# Altium schematic symbol library Phoenix.SchLib: 43 symbols
Pins are listed as number, name and electrical type; pins without a type are passive.

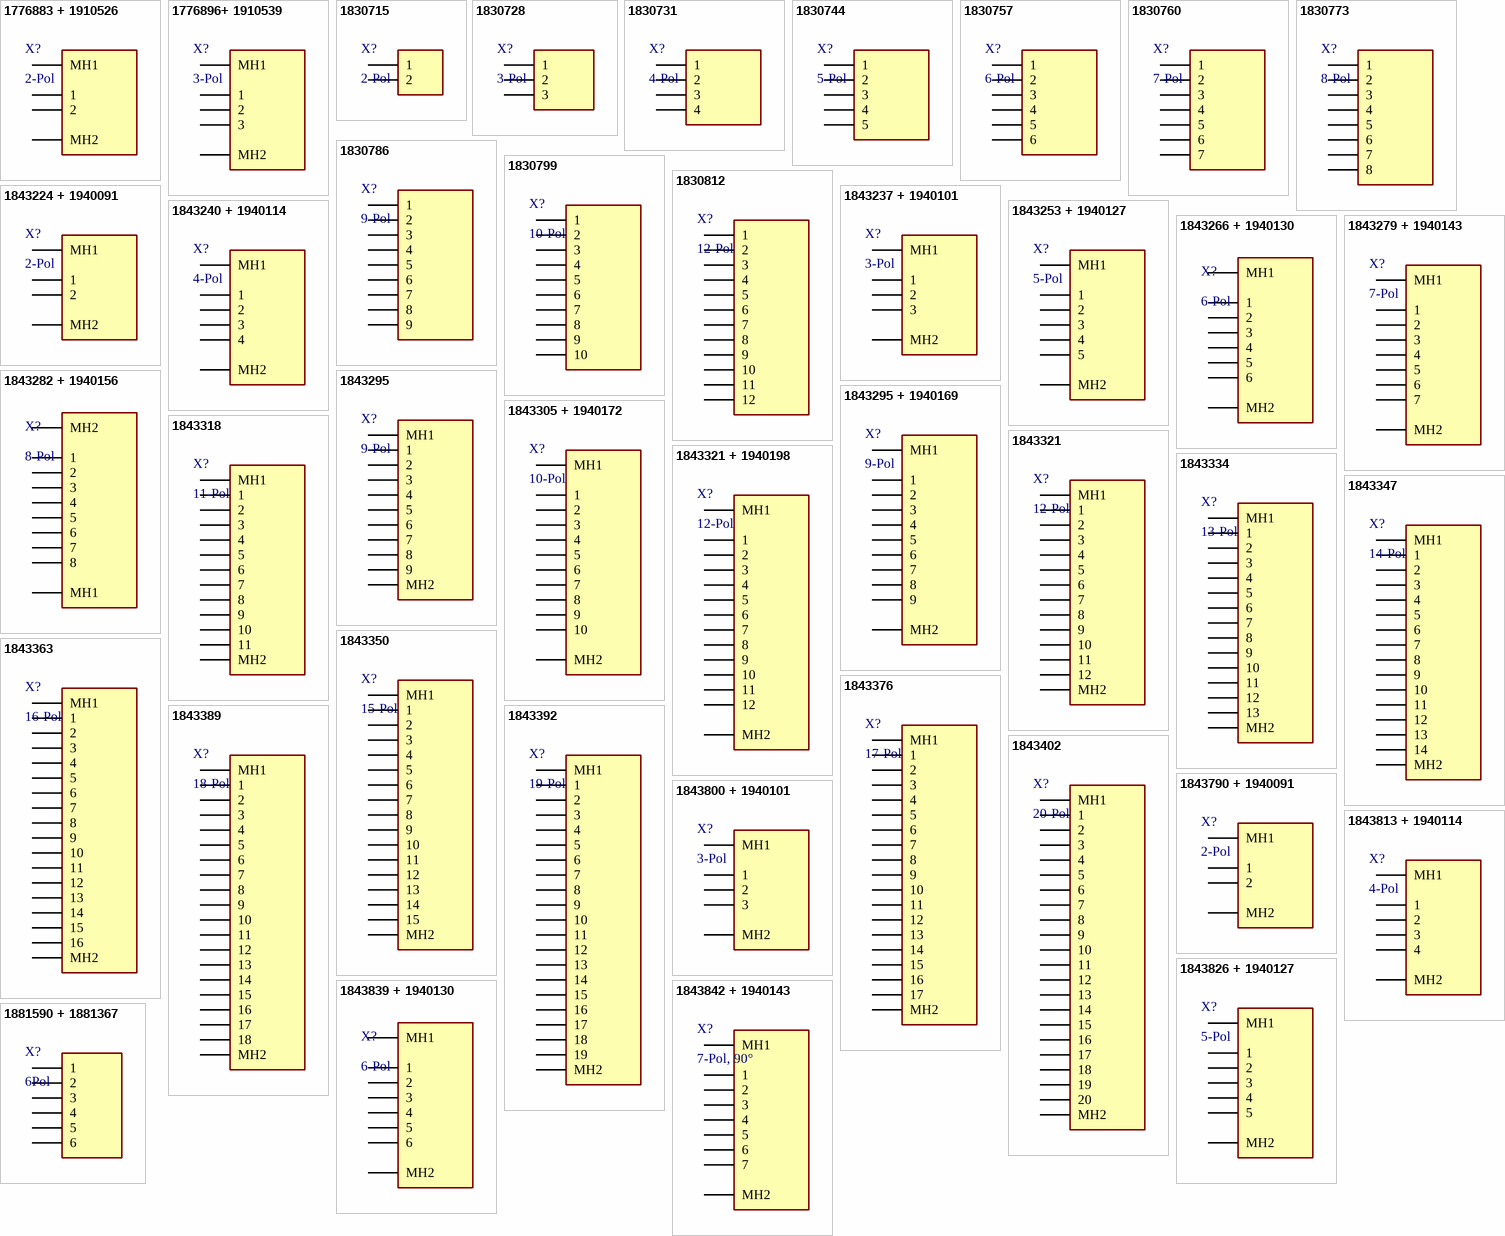
[diagram p0: symbols 1776883 + 1910526 to 1881590 + 1881367]

## 1776883 + 1910526
designator X?, comment 2-Pol
MSTBV 2,5/ 2-GF; Manufacturer: Phoenix Contact; Ordering Number: 1776883 + 1910526; Datasheet Link: https://pxc-crisp-production-platform-cr-s3downloadbucket-1rf23da6xdlmt.s3.eu-west-1.amazonaws.com/7581998?response-content-disposition=attachment%3B%20filename%20%3D%221776883_06_de_00.pdf%22&X-Amz-Algorithm=AWS4-HMAC-SHA256&X-Amz-Date=20230502T132623Z&X-Amz-SignedHeaders=host&X-Amz-Expires=10800&X-Amz-Credential=AKIAWWXX4BDRFPQUJUER%2F20230502%2Feu-west-1%2Fs3%2Faws4_request&X-Amz-Signature=93fda9201eaa23829656cda063376b60d5c1e41fd797b3d325ff711a1963ead9; Height: 15.9; Mouser Price/Stock: https://www.mouser.co.uk/ProductDetail/Phoenix-Contact/1843224?qs=W3wJikR1%252BS7TdfQo8aVAlQ%3D%3D; Arrow Part Number: 1843224; Arrow Price/Stock: https://www.arrow.com/en/products/1843224/phoenix-contact?region=nac
footprint 1776883 + 1910526
pins: 1, 2, MH1, MH2

## 1776896+ 1910539
designator X?, comment 3-Pol
MSTBV 2,5/ 3-GF; Manufacturer: Phoenix Contact; Ordering Number: 1776896+ 1910539; Datasheet Link: https://pxc-crisp-production-platform-cr-s3downloadbucket-1rf23da6xdlmt.s3.eu-west-1.amazonaws.com/7581998?response-content-disposition=attachment%3B%20filename%20%3D%221776883_06_de_00.pdf%22&X-Amz-Algorithm=AWS4-HMAC-SHA256&X-Amz-Date=20230502T132623Z&X-Amz-SignedHeaders=host&X-Amz-Expires=10800&X-Amz-Credential=AKIAWWXX4BDRFPQUJUER%2F20230502%2Feu-west-1%2Fs3%2Faws4_request&X-Amz-Signature=93fda9201eaa23829656cda063376b60d5c1e41fd797b3d325ff711a1963ead9; Height: 15.9; Mouser Price/Stock: https://www.mouser.co.uk/ProductDetail/Phoenix-Contact/1843224?qs=W3wJikR1%252BS7TdfQo8aVAlQ%3D%3D; Arrow Part Number: 1843224; Arrow Price/Stock: https://www.arrow.com/en/products/1843224/phoenix-contact?region=nac
footprint 1776896+ 1910539
pins: 1, 2, 3, MH1, MH2

## 1830715
designator X?, comment 2-Pol
IMCV 1,5/ 2-G-3,5 P20 THR; Manufacturer: Phoenix Contact; Ordering Number: 1830715; Datasheet Link: https://pxc-crisp-production-platform-cr-s3downloadbucket-1rf23da6xdlmt.s3.eu-west-1.amazonaws.com/7581998?response-content-disposition=attachment%3B%20filename%20%3D%221776883_06_de_00.pdf%22&X-Amz-Algorithm=AWS4-HMAC-SHA256&X-Amz-Date=20230502T132623Z&X-Amz-SignedHeaders=host&X-Amz-Expires=10800&X-Amz-Credential=AKIAWWXX4BDRFPQUJUER%2F20230502%2Feu-west-1%2Fs3%2Faws4_request&X-Amz-Signature=93fda9201eaa23829656cda063376b60d5c1e41fd797b3d325ff711a1963ead9; Height: 15.9; Mouser Price/Stock: https://www.mouser.co.uk/ProductDetail/Phoenix-Contact/1843224?qs=W3wJikR1%252BS7TdfQo8aVAlQ%3D%3D; Arrow Part Number: 1830715; Arrow Price/Stock: https://www.arrow.com/en/products/1843224/phoenix-contact?region=nac
footprint 1830715 IMCV 1,5/2-G-3,5 P20 THR
pins: 1, 2

## 1830728
designator X?, comment 3-Pol
IMCV 1,5/ 3-G-3,5 P20 THR; Manufacturer: Phoenix Contact; Ordering Number: 1830728; Datasheet Link: https://pxc-crisp-production-platform-cr-s3downloadbucket-1rf23da6xdlmt.s3.eu-west-1.amazonaws.com/7581998?response-content-disposition=attachment%3B%20filename%20%3D%221776883_06_de_00.pdf%22&X-Amz-Algorithm=AWS4-HMAC-SHA256&X-Amz-Date=20230502T132623Z&X-Amz-SignedHeaders=host&X-Amz-Expires=10800&X-Amz-Credential=AKIAWWXX4BDRFPQUJUER%2F20230502%2Feu-west-1%2Fs3%2Faws4_request&X-Amz-Signature=93fda9201eaa23829656cda063376b60d5c1e41fd797b3d325ff711a1963ead9; Height: 15.9; Mouser Price/Stock: https://www.mouser.co.uk/ProductDetail/Phoenix-Contact/1843224?qs=W3wJikR1%252BS7TdfQo8aVAlQ%3D%3D; Arrow Part Number: 1830715; Arrow Price/Stock: https://www.arrow.com/en/products/1843224/phoenix-contact?region=nac
footprint 1830728 IMCV 1,5/3-G-3,5 P20 THR
pins: 1, 2, 3

## 1830731
designator X?, comment 4-Pol
IMCV 1,5/ 4-G-3,5 P20 THR; Manufacturer: Phoenix Contact; Ordering Number: 1830731; Datasheet Link: https://pxc-crisp-production-platform-cr-s3downloadbucket-1rf23da6xdlmt.s3.eu-west-1.amazonaws.com/7581998?response-content-disposition=attachment%3B%20filename%20%3D%221776883_06_de_00.pdf%22&X-Amz-Algorithm=AWS4-HMAC-SHA256&X-Amz-Date=20230502T132623Z&X-Amz-SignedHeaders=host&X-Amz-Expires=10800&X-Amz-Credential=AKIAWWXX4BDRFPQUJUER%2F20230502%2Feu-west-1%2Fs3%2Faws4_request&X-Amz-Signature=93fda9201eaa23829656cda063376b60d5c1e41fd797b3d325ff711a1963ead9; Height: 15.9; Mouser Price/Stock: https://www.mouser.co.uk/ProductDetail/Phoenix-Contact/1843224?qs=W3wJikR1%252BS7TdfQo8aVAlQ%3D%3D; Arrow Part Number: 1830715; Arrow Price/Stock: https://www.arrow.com/en/products/1843224/phoenix-contact?region=nac
footprint 1830731 IMCV 1,5/4-G-3,5 P20 THR
pins: 1, 2, 3, 4

## 1830744
designator X?, comment 5-Pol
IMCV 1,5/ 5-G-3,5 P20 THR; Manufacturer: Phoenix Contact; Ordering Number: 1830744; Datasheet Link: https://pxc-crisp-production-platform-cr-s3downloadbucket-1rf23da6xdlmt.s3.eu-west-1.amazonaws.com/7581998?response-content-disposition=attachment%3B%20filename%20%3D%221776883_06_de_00.pdf%22&X-Amz-Algorithm=AWS4-HMAC-SHA256&X-Amz-Date=20230502T132623Z&X-Amz-SignedHeaders=host&X-Amz-Expires=10800&X-Amz-Credential=AKIAWWXX4BDRFPQUJUER%2F20230502%2Feu-west-1%2Fs3%2Faws4_request&X-Amz-Signature=93fda9201eaa23829656cda063376b60d5c1e41fd797b3d325ff711a1963ead9; Height: 15.9; Mouser Price/Stock: https://www.mouser.co.uk/ProductDetail/Phoenix-Contact/1843224?qs=W3wJikR1%252BS7TdfQo8aVAlQ%3D%3D; Arrow Part Number: 1830715; Arrow Price/Stock: https://www.arrow.com/en/products/1843224/phoenix-contact?region=nac
footprint 1830744 IMCV 1,5/5-G-3,5 P20 THR
pins: 1, 2, 3, 4, 5

## 1830757
designator X?, comment 6-Pol
IMCV 1,5/ 6-G-3,5 P20 THR; Manufacturer: Phoenix Contact; Ordering Number: 1830757; Datasheet Link: https://pxc-crisp-production-platform-cr-s3downloadbucket-1rf23da6xdlmt.s3.eu-west-1.amazonaws.com/7581998?response-content-disposition=attachment%3B%20filename%20%3D%221776883_06_de_00.pdf%22&X-Amz-Algorithm=AWS4-HMAC-SHA256&X-Amz-Date=20230502T132623Z&X-Amz-SignedHeaders=host&X-Amz-Expires=10800&X-Amz-Credential=AKIAWWXX4BDRFPQUJUER%2F20230502%2Feu-west-1%2Fs3%2Faws4_request&X-Amz-Signature=93fda9201eaa23829656cda063376b60d5c1e41fd797b3d325ff711a1963ead9; Height: 15.9; Mouser Price/Stock: https://www.mouser.co.uk/ProductDetail/Phoenix-Contact/1843224?qs=W3wJikR1%252BS7TdfQo8aVAlQ%3D%3D; Arrow Part Number: 1830715; Arrow Price/Stock: https://www.arrow.com/en/products/1843224/phoenix-contact?region=nac
footprint 1830757 IMCV 1,5/6-G-3,5 P20 THR
pins: 1, 2, 3, 4, 5, 6

## 1830760
designator X?, comment 7-Pol
IMCV 1,5/ 7-G-3,5 P20 THR; Manufacturer: Phoenix Contact; Ordering Number: 1830760; Datasheet Link: https://pxc-crisp-production-platform-cr-s3downloadbucket-1rf23da6xdlmt.s3.eu-west-1.amazonaws.com/7581998?response-content-disposition=attachment%3B%20filename%20%3D%221776883_06_de_00.pdf%22&X-Amz-Algorithm=AWS4-HMAC-SHA256&X-Amz-Date=20230502T132623Z&X-Amz-SignedHeaders=host&X-Amz-Expires=10800&X-Amz-Credential=AKIAWWXX4BDRFPQUJUER%2F20230502%2Feu-west-1%2Fs3%2Faws4_request&X-Amz-Signature=93fda9201eaa23829656cda063376b60d5c1e41fd797b3d325ff711a1963ead9; Height: 15.9; Mouser Price/Stock: https://www.mouser.co.uk/ProductDetail/Phoenix-Contact/1843224?qs=W3wJikR1%252BS7TdfQo8aVAlQ%3D%3D; Arrow Part Number: 1830715; Arrow Price/Stock: https://www.arrow.com/en/products/1843224/phoenix-contact?region=nac
footprint 1830760 IMCV 1,5/7-G-3,5 P20 THR
pins: 1, 2, 3, 4, 5, 6, 7

## 1830773
designator X?, comment 8-Pol
IMCV 1,5/ 8-G-3,5 P20 THR; Manufacturer: Phoenix Contact; Ordering Number: 1830773; Datasheet Link: https://pxc-crisp-production-platform-cr-s3downloadbucket-1rf23da6xdlmt.s3.eu-west-1.amazonaws.com/7581998?response-content-disposition=attachment%3B%20filename%20%3D%221776883_06_de_00.pdf%22&X-Amz-Algorithm=AWS4-HMAC-SHA256&X-Amz-Date=20230502T132623Z&X-Amz-SignedHeaders=host&X-Amz-Expires=10800&X-Amz-Credential=AKIAWWXX4BDRFPQUJUER%2F20230502%2Feu-west-1%2Fs3%2Faws4_request&X-Amz-Signature=93fda9201eaa23829656cda063376b60d5c1e41fd797b3d325ff711a1963ead9; Height: 15.9; Mouser Price/Stock: https://www.mouser.co.uk/ProductDetail/Phoenix-Contact/1843224?qs=W3wJikR1%252BS7TdfQo8aVAlQ%3D%3D; Arrow Part Number: 1830715; Arrow Price/Stock: https://www.arrow.com/en/products/1843224/phoenix-contact?region=nac
footprint 1830773 IMCV 1,5/8-G-3,5 P20 THR
pins: 1, 2, 3, 4, 5, 6, 7, 8

## 1830786
designator X?, comment 9-Pol
IMCV 1,5/ 9-G-3,5 P20 THR; Manufacturer: Phoenix Contact; Ordering Number: 1830786; Datasheet Link: https://pxc-crisp-production-platform-cr-s3downloadbucket-1rf23da6xdlmt.s3.eu-west-1.amazonaws.com/7581998?response-content-disposition=attachment%3B%20filename%20%3D%221776883_06_de_00.pdf%22&X-Amz-Algorithm=AWS4-HMAC-SHA256&X-Amz-Date=20230502T132623Z&X-Amz-SignedHeaders=host&X-Amz-Expires=10800&X-Amz-Credential=AKIAWWXX4BDRFPQUJUER%2F20230502%2Feu-west-1%2Fs3%2Faws4_request&X-Amz-Signature=93fda9201eaa23829656cda063376b60d5c1e41fd797b3d325ff711a1963ead9; Height: 15.9; Mouser Price/Stock: https://www.mouser.co.uk/ProductDetail/Phoenix-Contact/1843224?qs=W3wJikR1%252BS7TdfQo8aVAlQ%3D%3D; Arrow Part Number: 1830715; Arrow Price/Stock: https://www.arrow.com/en/products/1843224/phoenix-contact?region=nac
footprint 1830786 IMCV 1,5/9-G-3,5 P20 THR
pins: 1, 2, 3, 4, 5, 6, 7, 8, 9

## 1830799
designator X?, comment 10-Pol
IMCV 1,5/ 10-G-3,5 P20 THR; Manufacturer: Phoenix Contact; Ordering Number: 1830799; Datasheet Link: https://pxc-crisp-production-platform-cr-s3downloadbucket-1rf23da6xdlmt.s3.eu-west-1.amazonaws.com/7581998?response-content-disposition=attachment%3B%20filename%20%3D%221776883_06_de_00.pdf%22&X-Amz-Algorithm=AWS4-HMAC-SHA256&X-Amz-Date=20230502T132623Z&X-Amz-SignedHeaders=host&X-Amz-Expires=10800&X-Amz-Credential=AKIAWWXX4BDRFPQUJUER%2F20230502%2Feu-west-1%2Fs3%2Faws4_request&X-Amz-Signature=93fda9201eaa23829656cda063376b60d5c1e41fd797b3d325ff711a1963ead9; Height: 15.9; Mouser Price/Stock: https://www.mouser.co.uk/ProductDetail/Phoenix-Contact/1843224?qs=W3wJikR1%252BS7TdfQo8aVAlQ%3D%3D; Arrow Part Number: 1830715; Arrow Price/Stock: https://www.arrow.com/en/products/1843224/phoenix-contact?region=nac
footprint 1830799 IMCV 1,5/10-G-3,5 P20 THR
pins: 1, 2, 3, 4, 5, 6, 7, 8, 9, 10

## 1830812
designator X?, comment 12-Pol
IMCV 1,5/ 12-G-3,5 P20 THR; Manufacturer: Phoenix Contact; Ordering Number: 1830812; Datasheet Link: https://pxc-crisp-production-platform-cr-s3downloadbucket-1rf23da6xdlmt.s3.eu-west-1.amazonaws.com/7581998?response-content-disposition=attachment%3B%20filename%20%3D%221776883_06_de_00.pdf%22&X-Amz-Algorithm=AWS4-HMAC-SHA256&X-Amz-Date=20230502T132623Z&X-Amz-SignedHeaders=host&X-Amz-Expires=10800&X-Amz-Credential=AKIAWWXX4BDRFPQUJUER%2F20230502%2Feu-west-1%2Fs3%2Faws4_request&X-Amz-Signature=93fda9201eaa23829656cda063376b60d5c1e41fd797b3d325ff711a1963ead9; Height: 14,45; Mouser Price/Stock: https://www.mouser.co.uk/ProductDetail/Phoenix-Contact/1843224?qs=W3wJikR1%252BS7TdfQo8aVAlQ%3D%3D; Arrow Part Number: 1830715; Arrow Price/Stock: https://www.arrow.com/en/products/1843224/phoenix-contact?region=nac
footprint 1830812 IMCV 1,5/12-G-3,5 P20 THR
pins: 1, 2, 3, 4, 5, 6, 7, 8, 9, 10, 11, 12

## 1843224 + 1940091
designator X?, comment 2-Pol
MCV 1,5/ 2-GF-3,5 + FK-MCP 1,5/ 2-STF-3,5; Manufacturer: Phoenix Contact; Ordering Number: 1843224 + 1940091; Datasheet Link: https://datasheet.datasheetarchive.com/originals/distributors/SFDatasheet-2/sf-00054479.pdf; Height: 9.2mm; Mouser Part Number: 651-1843224; Mouser Price/Stock: https://www.mouser.co.uk/ProductDetail/Phoenix-Contact/1843224?qs=W3wJikR1%252BS7TdfQo8aVAlQ%3D%3D; Arrow Part Number: 1843224; Arrow Price/Stock: https://www.arrow.com/en/products/1843224/phoenix-contact?region=nac
footprint 1843224 MCV 1,5/ 2-GF-3,5
pins: 1, 2, MH1, MH2

## 1843237 + 1940101
designator X?, comment 3-Pol
MCV 1,5/ 3-GF-3,5; Manufacturer: Phoenix Contact; Ordering Number: 1843237 + 1940101; Datasheet Link: https://datasheet.datasheetarchive.com/originals/distributors/SFDatasheet-2/sf-00054480.pdf; Height: 9.35mm; Mouser Part Number: 651-1843237; Mouser Price/Stock: https://www.mouser.co.uk/ProductDetail/Phoenix-Contact/1843237?qs=QWULklcAmSRz%2FPKCcOFzew%3D%3D; Arrow Part Number: 1843237; Arrow Price/Stock: https://www.arrow.com/en/products/1843237/phoenix-contact
footprint 1843237 MCV 1,5/ 3-GF-3,5
pins: 1, 2, 3, MH1, MH2

## 1843240 + 1940114
designator X?, comment 4-Pol
MCV 1,5/ 4-GF-3,5; Manufacturer: Phoenix Contact; Ordering_Number: 1843240 + 1940114; Datasheet Link: https://datasheet.datasheetarchive.com/originals/distributors/SFDatasheet-2/sf-00054481.pdf; Height: 9.2mm; Mouser Part Number: 651-1843240; Mouser Price/Stock: https://www.mouser.co.uk/ProductDetail/Phoenix-Contact/1843240?qs=W3wJikR1%252BS4UV948sQ%2FfDQ%3D%3D; Arrow Part Number: 1843240; Arrow Price/Stock: https://www.arrow.com/en/products/1843240/phoenix-contact?region=nac
footprint 1843240 MCV 1,5/ 4-GF-3,5
pins: 1, 2, 3, 4, MH1, MH2

## 1843253 + 1940127
designator X?, comment 5-Pol
MCV 1,5/ 5-GF-3,5 + FK-MCP 1,5/ 5-STF-3,5; Manufacturer: Phoenix Contact; Ordering Number: 1843253 + 1940127; Datasheet Link: https://datasheet.datasheetarchive.com/originals/distributors/Datasheets-DGA26/1813160.pdf; Height: 9.35mm; Mouser Part Number: 651-1843253; Mouser Price/Stock: https://www.mouser.co.uk/ProductDetail/Phoenix-Contact/1843253?qs=qDEY8L%2Fo3POXxLCZiJq8WA%3D%3D; Arrow Part Number: 1843253; Arrow Price/Stock: https://www.arrow.com/en/products/1843253/phoenix-contact
footprint 1843253 MCV 1,5/ 5-GF-3,5
pins: 1, 2, 3, 4, 5, MH1, MH2

## 1843266 + 1940130
designator X?, comment 6-Pol
MCV 1,5/ 6-GF-3,5 + FK-MCP 1,5/ 6-STF-3,5; Manufacturer: Phoenix Contact; Ordering Number: 1843266 + 1940130; Datasheet Link: https://www.phoenixcontact.com/online/portal/pi/pxc/product_detail_page/!ut/p/z1/5VdNT-MwEP0r3UNvuHa-3WMJXShQtqi0NLlETjLpms0XiWmBX792m1VVBOGAOKwSWantzDzPe56pNNjHK-znbMPXTPAiZ6lce74dUP3KvTg3tSkxLyi5vZldj25vZ4Y-0vES-9ivIYVIQOwyAeuiesHe6PpafRAsxJ6uZmUU_cHeDG
footprint 1843266 MCV 1,5/ 6-GF-3,5 + FK-MCP 1,5/ 6-STF-3,5
pins: 1, 2, 3, 4, 5, 6, MH1, MH2

## 1843279 + 1940143
designator X?, comment 7-Pol
MCV 1,5/ 7-GF-3,5; Manufacturer: Phoenix Contact; Ordering Number: 1843279 + 1940143; Datasheet Link: https://www.phoenixcontact.com/online/portal/pi/pxc/product_detail_page/!ut/p/z1/5VdLT-MwEP4r3UNvuHbe7rGEAgUKRaXQ5BI5yaRrNi8S0wK_fu02qwpUwgFxWCWyEj9mPvv7PBNpsI-X2M_Zmq-Y4EXOUjn2fDug-qV7fmZqU2KeU3J7Pbsa3d7ODH2k43vsY7-GFCIBscsErIrqFXujqyu1IFiIPV31yij6g70Z0j; Height: 9.35mm; Arrow Part Number: 1843279; Arrow Price/Stock: https://www.arrow.com/en/products/1843279/phoenix-contact
footprint 1843279 MCV 1,5/ 7-GF-3,5
pins: 1, 2, 3, 4, 5, 6, 7, MH1, MH2

## 1843282 + 1940156
designator X?, comment 8-Pol
MCV 1,5/ 8-GF-3,5; Manufacturer: Phoenix Contact; Ordering Number: 1843282 +; Datasheet Link: https://datasheet.datasheetarchive.com/originals/distributors/SFDatasheet-2/sf-00054485.pdf; Height: 9.35mm; Mouser Part Number: 651-1843282; Mouser Price/Stock: https://www.mouser.co.uk/ProductDetail/Phoenix-Contact/1843282?qs=QWULklcAmSTLfGtPADlbSQ%3D%3D; Arrow Part Number: 1843282; Arrow Price/Stock: https://www.arrow.com/en/products/1843282/phoenix-contact
footprint 1843282 MCV 1,5/ 8-GF-3,5
pins: 1, 2, 3, 4, 5, 6, 7, 8, MH1, MH2

## 1843295
designator X?, comment 9-Pol
MCV 1,5/ 9-GF-3,5; Manufacturer: Phoenix Contact; Ordering Number: 1843295; Datasheet Link: http://www.phoenixcontact.com/de/produkte/1843295/pdf; Height: 9.35mm; Mouser Part Number: 651-1843295; Mouser Price/Stock: https://www.mouser.co.uk/ProductDetail/Phoenix-Contact/1843295?qs=qDEY8L%2Fo3PNnpW9tKLaRww%3D%3D; Arrow Part Number: 1843295; Arrow Price/Stock: https://www.arrow.com/en/products/1843295/phoenix-contact
footprint 1843295 MCV 1,5/ 9-GF-3,5
pins: 1, 2, 3, 4, 5, 6, 7, 8, 9, MH1, MH2

## 1843295 + 1940169
designator X?, comment 9-Pol
MCV 1,5/ 9-GF-3,5; Manufacturer: Phoenix Contact; Ordering Number: 1843295 + 1940169; Datasheet Link: http://www.phoenixcontact.com/de/produkte/1843295/pdf; Height: 9.35mm; Mouser Part Number: 651-1843295; Mouser Price/Stock: https://www.mouser.co.uk/ProductDetail/Phoenix-Contact/1843295?qs=qDEY8L%2Fo3PNnpW9tKLaRww%3D%3D; Arrow Part Number: 1843295; Arrow Price/Stock: https://www.arrow.com/en/products/1843295/phoenix-contact
footprint 1843295 + 1940169MCV 1,5/ 9-GF-3,5
pins: 1, 2, 3, 4, 5, 6, 7, 8, 9, MH1, MH2

## 1843305 + 1940172
designator X?, comment 10-Pol
MCV 1,5/10-GF-3,5; Manufacturer: Phoenix Contact; Ordering Number: 1843305 + 1940172; Datasheet Link: https://componentsearchengine.com/Datasheets/1/1843305.pdf; Height: 9.35mm; Mouser Part Number: 651-1843305; Mouser Price/Stock: https://www.mouser.co.uk/ProductDetail/Phoenix-Contact/1843305?qs=t%252BrwbUv0m%252BzKFslnE2jFTw%3D%3D; Arrow Part Number: 1843305; Arrow Price/Stock: https://www.arrow.com/en/products/1843305/phoenix-contact
footprint 1843305 MCV 1,5/ 10-GF-3,5
pins: 1, 2, 3, 4, 5, 6, 7, 8, 9, 10, MH1, MH2

## 1843318
designator X?, comment 11-Pol
MCV 1,5/11-GF-3,5; Manufacturer: Phoenix Contact; Ordering Number: 1843318; Datasheet Link: https://datasheet.datasheetarchive.com/originals/distributors/SFDatasheet-2/sf-00054488.pdf; Height: 9.35mm; Mouser Part Number: 651-1843318; Mouser Price/Stock: https://www.mouser.com/Search/Refine.aspx?Keyword=651-1843318; Arrow Part Number: 1843318; Arrow Price/Stock: https://www.arrow.com/en/products/1843318/phoenix-contact
footprint 1843318 MCV 1,5/ 11-GF-3,5
pins: 1, 2, 3, 4, 5, 6, 7, 8, 9, 10, 11, MH1, MH2

## 1843321
designator X?, comment 12-Pol
MCV 1,5/12-GF-3,5; Manufacturer: Phoenix Contact; Ordering Number: 1843321; Datasheet Link: https://media.digikey.com/pdf/Data%20Sheets/Phoenix%20Contact%20PDFs/1843321.pdf; Height: 18.7mm; Mouser Part Number: 651-1843321; Mouser Price/Stock: https://www.mouser.co.uk/ProductDetail/Phoenix-Contact/1843321?qs=2%252BM72CStpDQB8qC9t4j80g%3D%3D; Arrow Part Number: 1843321; Arrow Price/Stock: https://www.arrow.com/en/products/1843321/phoenix-contact?region=nac
footprint 1843321 MCV 1,5/ 12-GF-3,5
pins: 1, 2, 3, 4, 5, 6, 7, 8, 9, 10, 11, 12, MH1, MH2

## 1843321 + 1940198
designator X?, comment 12-Pol
MCV 1,5/12-GF-3,5 + FK-MCP 1,5/ 6-STF-3,5; Manufacturer: Phoenix Contact; Ordering Number: 1843321 + 1940198; Height: 18.7mm
footprint 1843321  MCV 1,5/12-GF-3,5
pins: 1, 2, 3, 4, 5, 6, 7, 8, 9, 10, 11, 12, MH1, MH2

## 1843334
designator X?, comment 13-Pol
MCV 1,5/13-GF-3,5; Manufacturer: Phoenix Contact; Ordering Number: 1843334; Datasheet Link: https://www.phoenixcontact.com/online/portal/pi/?uri=pxc-oc-itemdetail:pid=1843334&library=pien&pcck=P-11-02-11&tab=2&selectedCategory=ALL; Height: 9.35mm; Mouser Part Number: 651-1843334; Mouser Price/Stock: https://www.mouser.co.uk/ProductDetail/Phoenix-Contact/1843334?qs=%2F0TLcleVf6SFNqj0Q1fyKw%3D%3D
footprint 1843334 MCV 1,5/ 13-GF-3,5
pins: 1, 2, 3, 4, 5, 6, 7, 8, 9, 10, 11, 12, 13, MH1, MH2

## 1843347
designator X?, comment 14-Pol
MCV 1,5/16-GF-3,5; Manufacturer: Phoenix Contact; Ordering Number: 1843347; Datasheet Link: https://componentsearchengine.com/Datasheets/1/1843347.pdf; Height: 9.35mm; Mouser Part Number: 651-1843347; Mouser Price/Stock: https://www.mouser.com/Search/Refine.aspx?Keyword=651-1843347; Arrow Part Number: 1843347; Arrow Price/Stock: https://www.arrow.com/en/products/1843347/phoenix-contact
footprint 1843363 MCV 1,5/ 16-GF-3,5
pins: 1, 2, 3, 4, 5, 6, 7, 8, 9, 10, 11, 12, 13, 14, MH1, MH2

## 1843350
designator X?, comment 15-Pol
MCV 1,5/15-GF-3,5; Manufacturer: Phoenix Contact; Ordering Number: 1843350; Datasheet Link: http://www.phoenixcontact.com/de/produkte/1843350/pdf; Height: 9.35mm; Mouser Part Number: 651-1843350; Mouser Price/Stock: https://www.mouser.com/Search/Refine.aspx?Keyword=651-1843350; Arrow Part Number: 1843350; Arrow Price/Stock: https://www.arrow.com/en/products/1843350/phoenix-contact
footprint 1843350 MCV 1,5/ 15-GF-3,5
pins: 1, 2, 3, 4, 5, 6, 7, 8, 9, 10, 11, 12, 13, 14, 15, MH1, MH2

## 1843363
designator X?, comment 16-Pol
MCV 1,5/16-GF-3,5; Manufacturer: Phoenix Contact; Ordering Number: 1843363; Datasheet Link: http://www.phoenixcontact.com/de/produkte/1843363/pdf; Height: 9.35mm; Mouser Part Number: 651-1843363; Mouser Price/Stock: https://www.mouser.co.uk/ProductDetail/Phoenix-Contact/1843363?qs=2%252BM72CStpDRUjwKytP%2FNkw%3D%3D; Arrow Part Number: 1843363; Arrow Price/Stock: https://www.arrow.com/en/products/1843363/phoenix-contact
footprint 1843363 MCV 1,5/ 16-GF-3,5
pins: 1, 2, 3, 4, 5, 6, 7, 8, 9, 10, 11, 12, 13, 14, 15, 16, MH1, MH2

## 1843376
designator X?, comment 17-Pol
MCV 1,5/17-GF-3,5; Manufacturer: Phoenix Contact; Ordering Number: 1843376; Datasheet Link: http://www.phoenixcontact.com/de/produkte/1843376/pdf; Height: 9.35mm; Mouser Part Number: 651-1843376; Mouser Price/Stock: https://www.mouser.com/Search/Refine.aspx?Keyword=651-1843376; Arrow Part Number: 1843376; Arrow Price/Stock: https://www.arrow.com/en/products/1843376/phoenix-contact
footprint 1843376 MCV 1,5/ 17-GF-3,5
pins: 1, 2, 3, 4, 5, 6, 7, 8, 9, 10, 11, 12, 13, 14, 15, 16, 17, MH1, MH2

## 1843389
designator X?, comment 18-Pol
MCV 1,5/18-GF-3,5; Manufacturer: Phoenix Contact; Ordering Number: 1843389; Datasheet Link: http://www.phoenixcontact.com/de/produkte/1843389/pdf; Height: 9.35mm; Mouser Part Number: 651-1843389; Mouser Price/Stock: https://www.mouser.com/Search/Refine.aspx?Keyword=651-1843389; Arrow Part Number: 1843389; Arrow Price/Stock: https://www.arrow.com/en/products/1843389/phoenix-contact
footprint 1843389 MCV 1,5/ 18-GF-3,5
pins: 1, 2, 3, 4, 5, 6, 7, 8, 9, 10, 11, 12, 13, 14, 15, 16, 17, 18, MH1, MH2

## 1843392
designator X?, comment 19-Pol
MCV 1,5/19-GF-3,5; Manufacturer: Phoenix Contact; Ordering Number: 1843392; Datasheet Link: https://www.phoenixcontact.com/en-ie/products/pcb-header-mcv-1519-gf-35-1843392#; Height: 9.35mm; Arrow Part Number: 1843392; Arrow Price/Stock: https://www.arrow.com/en/products/1843392/phoenix-contact
footprint 1843392 MCV 1,5/ 19-GF-3,5
pins: 1, 2, 3, 4, 5, 6, 7, 8, 9, 10, 11, 12, 13, 14, 15, 16, 17, 18, 19, MH1, MH2

## 1843402
designator X?, comment 20-Pol
MCV 1,5/20-GF-3,5; Manufacturer: Phoenix Contact; Ordering Number: 1843402; Datasheet Link: http://www.phoenixcontact.com/de/produkte/1843402/pdf; Height: 9.35mm
footprint 1843402 MCV 1,5/ 20-GF-3,5
pins: 1, 2, 3, 4, 5, 6, 7, 8, 9, 10, 11, 12, 13, 14, 15, 16, 17, 18, 19, 20, MH1, MH2

## 1843790 + 1940091
designator X?, comment 2-Pol
MC 1,5/ 2-GF-3,5 + FK-MCP 1,5/ 2-STF-3,5; Manufacturer: Phoenix Contact; Ordering Number: 1843790 + 1940091; Datasheet Link: https://datasheet.datasheetarchive.com/originals/distributors/SFDatasheet-2/sf-00054479.pdf; Height: 9.2mm; Mouser Part Number: 651-1843224; Mouser Price/Stock: https://www.mouser.co.uk/ProductDetail/Phoenix-Contact/1843224?qs=W3wJikR1%252BS7TdfQo8aVAlQ%3D%3D; Arrow Part Number: 1843224; Arrow Price/Stock: https://www.arrow.com/en/products/1843224/phoenix-contact?region=nac
footprint 1843790
pins: 1, 2, MH1, MH2

## 1843800 + 1940101
designator X?, comment 3-Pol
MC 1,5/ 3-GF-3,5+ FK-MCP 1,5/ 3-STF-3,5; Manufacturer: Phoenix Contact; Ordering Number: 1843800 + 1940101; Datasheet Link: https://datasheet.datasheetarchive.com/originals/distributors/SFDatasheet-2/sf-00054480.pdf; Height: 9.35mm; Mouser Part Number: 651-1843237; Mouser Price/Stock: https://www.mouser.co.uk/ProductDetail/Phoenix-Contact/1843237?qs=QWULklcAmSRz%2FPKCcOFzew%3D%3D; Arrow Part Number: 1843237; Arrow Price/Stock: https://www.arrow.com/en/products/1843237/phoenix-contact
footprint 1843800
pins: 1, 2, 3, MH1, MH2

## 1843813 + 1940114
designator X?, comment 4-Pol
MC 1,5/ 4-GF-3,5 + FK-MCP 1,5/ 4-STF-3,5; Manufacturer: Phoenix Contact; Ordering_Number: 1843813 + 1940114; Datasheet Link: https://datasheet.datasheetarchive.com/originals/distributors/SFDatasheet-2/sf-00054481.pdf; Height: 9.2mm; Mouser Part Number: 651-1843240; Mouser Price/Stock: https://www.mouser.co.uk/ProductDetail/Phoenix-Contact/1843240?qs=W3wJikR1%252BS4UV948sQ%2FfDQ%3D%3D; Arrow Part Number: 1843240; Arrow Price/Stock: https://www.arrow.com/en/products/1843240/phoenix-contact?region=nac
footprint 1843813
pins: 1, 2, 3, 4, MH1, MH2

## 1843826 + 1940127
designator X?, comment 5-Pol
MC 1,5/ 5-GF-3,5 + FK-MCP 1,5/ 5-STF-3,5; Manufacturer: Phoenix Contact; Ordering Number: 1843826 + 1940127; Datasheet Link: https://datasheet.datasheetarchive.com/originals/distributors/Datasheets-DGA26/1813160.pdf; Height: 9.35mm; Mouser Part Number: 651-1843253; Mouser Price/Stock: https://www.mouser.co.uk/ProductDetail/Phoenix-Contact/1843253?qs=qDEY8L%2Fo3POXxLCZiJq8WA%3D%3D; Arrow Part Number: 1843253; Arrow Price/Stock: https://www.arrow.com/en/products/1843253/phoenix-contact
footprint 1843826
pins: 1, 2, 3, 4, 5, MH1, MH2

## 1843839 + 1940130
designator X?, comment 6-Pol
MC 1,5/ 6-GF-3,5 + FK-MCP 1,5/ 6-STF-3,5; Manufacturer: Phoenix Contact; Ordering Number: 1843839 + 1940130; Datasheet Link: https://www.phoenixcontact.com/online/portal/pi/pxc/product_detail_page/!ut/p/z1/5VdNT-MwEP0r3UNvuHa-3WMJXShQtqi0NLlETjLpms0XiWmBX792m1VVBOGAOKwSWantzDzPe56pNNjHK-znbMPXTPAiZ6lce74dUP3KvTg3tSkxLyi5vZldj25vZ4Y-0vES-9ivIYVIQOwyAeuiesHe6PpafRAsxJ6uZmUU_cHeDG
footprint 1843839
pins: 1, 2, 3, 4, 5, 6, MH1, MH2

## 1843842 + 1940143
designator X?, comment 7-Pol, 90°
MC 1,5/ 7-GF-3,5 + FK-MCP 1,5/ 7-STF-3,5; Manufacturer: Phoenix Contact; Ordering Number: 1843842 + 1940143; Datasheet Link: https://www.phoenixcontact.com/online/portal/pi/pxc/product_detail_page/!ut/p/z1/5VdLT-MwEP4r3UNvuHbe7rGEAgUKRaXQ5BI5yaRrNi8S0wK_fu02qwpUwgFxWCWyEj9mPvv7PBNpsI-X2M_Zmq-Y4EXOUjn2fDug-qV7fmZqU2KeU3J7Pbsa3d7ODH2k43vsY7-GFCIBscsErIrqFXujqyu1IFiIPV31yij6g70Z0j; Height: 9.35mm; Arrow Part Number: 1843279; Arrow Price/Stock: https://www.arrow.com/en/products/1843279/phoenix-contact
footprint 1843842 MC 1,5/ 7-GF-3,5
pins: 1, 2, 3, 4, 5, 6, 7, MH1, MH2

## 1881590 + 1881367
designator X?, comment 6Pol
MCV 0,5/ 6-G-2,5 + FK-MC 0,5/ 6-ST-2,5; Manufacturer: Phoenix Contact; Ordering Number: 1881590 + 1881367; Height: 18.7mm
footprint 1881590 MCV 0,5/ 6-G-2,5 +1881367
pins: 1, 2, 3, 4, 5, 6

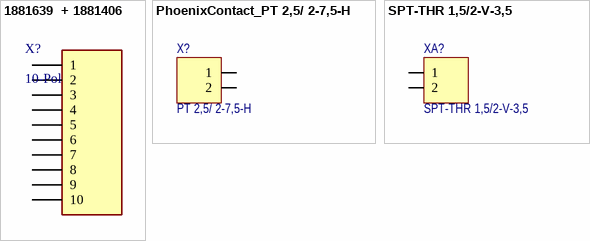
[diagram p1: symbols 1881639  + 1881406 to SPT-THR 1,5/2-V-3,5]

## 1881639  + 1881406
designator X?, comment 10-Pol
MCV 0,5/10-G-2,5 + FK-MC 0,5/10-ST-2,5; Manufacturer: Phoenix Contact; Ordering Number: 1881639  + 1881406; Height: 18.7mm
footprint 1881639 MCV 0,5/ 10-G-2,5 +1881406
pins: 1, 2, 3, 4, 5, 6, 7, 8, 9, 10

## PhoenixContact_PT 2,5/ 2-7,5-H
designator X?, comment PT 2,5/ 2-7,5-H
Screw compact terminal block; Manufacturer: Phoenix Contact; Part Number: 1988105; Part ID: PhoenixContact_PT 2,5/ 2-7,5-H; Price: 0,79; ComponentLink1Description: Datasheet; ComponentLink1URL: D:\Prj\_Altium\Lib\DbLib_Nieuwenhuizen\Datasheets\PhoenixContact\PhoenixContact_1988105_PT2,5_2-7,5-H.pdf; Value: PT 2,5/ 2-7,5-H
footprint PhoenixContact_PT 2,5/2-7,5-H
pins: 1, 2

## SPT-THR 1,5/2-V-3,5
designator XA?
Phoenix Contact SPT-THR 1,5/2-V-3,5; Ordering Number: 1823191; € / St.: 1,84; Manufacturer: Phoenix Contact; Value: SPT-THR 1,5/2-V-3,5
footprint SPT-THR 1,5/2-V-3,5 (Phoenix Contact SPT-THR 1,5/2-V-3,5)
pins: 1, 2